# EAGLE library part CONN_2X04_ZZ (library GPLIB_CONN)
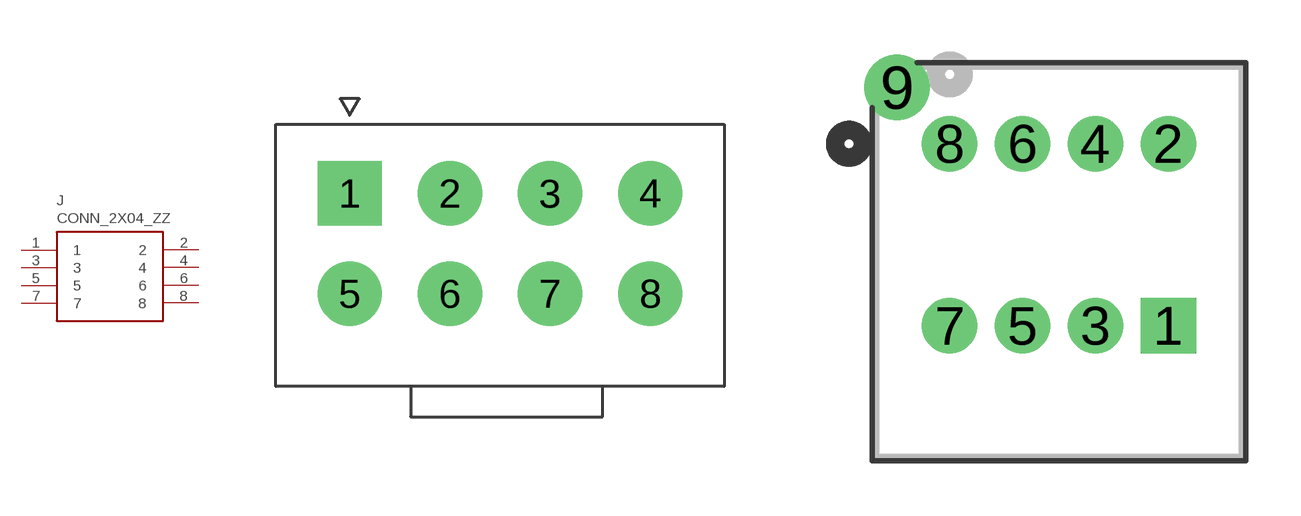
[diagram p31: symbol with the pads of CONN_2X04_COL_4.2MM_TH_ST_MX_39281083; footprints CONN_2X04_COL_4.2MM_TH_ST_MX_39281083, CONN_2X04_ZZ_2.0MM_TH_ST_JST_PNDZS-1]

Designator prefix J

## CONN_2X04_ZZ_4.2MM_TH_ST_MX_39281083  [CONN_2X04_COL_4.2MM_TH_ST_MX_39281083]
1  1  pas
2  2  pas
3  3  pas
4  4  pas
5  5  pas
6  6  pas
7  7  pas
8  8  pas

## CONN_2X04_ZZ_2.0MM_TH_ST_JST_B08B-PNDZS-1  [CONN_2X04_ZZ_2.0MM_TH_ST_JST_PNDZS-1]
Pads as for CONN_2X04_COL_4.2MM_TH_ST_MX_39281083

## CONN_2X04_ZZ_4.2MM_TH_RA_HCTL_HC-5557-2*4AW  [CONN_2X04_ZZ_4.2MM_TH_RA_HCTL_HC-5557-2*4AW]
Pads as for CONN_2X04_COL_4.2MM_TH_ST_MX_39281083

## Footprint CONN_2X04_COL_4.2MM_TH_ST_MX_39281083 (pad centres in mm)
drill 1.8 pad 2.4 square: 1 -6.3,2.1
drill 1.8 pad 2.4: 2 -2.1,2.1; 3 2.1,2.1; 4 6.3,2.1; 5 -6.3,-2.1; 6 -2.1,-2.1; 7 2.1,-2.1; 8 6.3,-2.1

## Footprint CONN_2X04_ZZ_2.0MM_TH_ST_JST_PNDZS-1 (pad centres in mm)
drill 0.914 pad 1.524 square: 1 3,-2.5
drill 0.914 pad 1.524: 2 3,2.5; 3 1,-2.5; 4 1,2.5; 5 -1,-2.5; 6 -1,2.5; 7 -3,-2.5; 8 -3,2.5
drill 1.2 pad 1.092: 9 -4.45,4.05

## Footprint CONN_2X04_ZZ_4.2MM_TH_RA_HCTL_HC-5557-2*4AW (pad centres in mm)
drill 1.8 pad 2.8: 1 -6.3,-2.75; 2 -6.3,2.75; 3 -2.1,-2.75; 4 -2.1,2.75; 5 2.1,-2.75; 6 2.1,2.75; 7 6.3,-2.75; 8 6.3,2.75